# Altium footprint library footprints.PcbLib: 3 footprints
Each footprint in its own frame and in the unit in brackets; x right, y up, seen from the top. Pads: shape width x height; smd on the part's side, far side on the other; paste and mask are expansions set on the pad; w line width, h text height; cw(c..) or ccw(c..) is an arc to the next point about the centre after c.
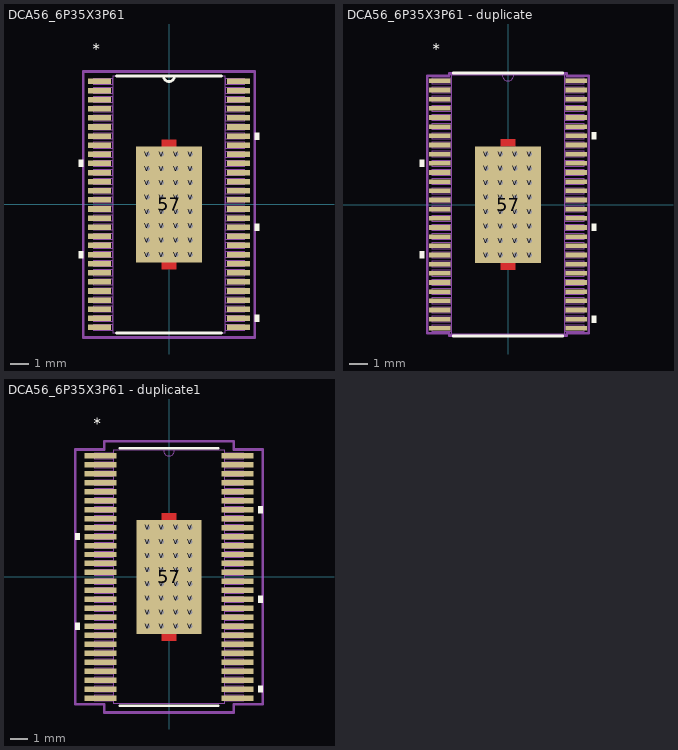
[diagram p0: the footprints below, top view; thin cyan lines are the x and y axes]

## DCA56_6P35X3P61 [mil]
pads (89):
  rect 50x12 smd: 1(-150.5,265.75) 2(-150.5,246.06) 3(-150.5,226.38) 4(-150.5,206.69) 5(-150.5,187.01) 6(-150.5,167.32) 7(-150.5,147.64) 8(-150.5,127.95) 9(-150.5,108.27) 10(-150.5,88.58) 11(-150.5,68.9) 12(-150.5,49.21) 13(-150.5,29.53) 14(-150.5,9.84) 15(-150.5,-9.84) 16(-150.5,-29.53) 17(-150.5,-49.21) 18(-150.5,-68.9) 19(-150.5,-88.58) 20(-150.5,-108.27) 21(-150.5,-127.95) 22(-150.5,-147.64) 23(-150.5,-167.32) 24(-150.5,-187.01) 25(-150.5,-206.69) 26(-150.5,-226.38) 27(-150.5,-246.06) 28(-150.5,-265.75) 29(150.5,-265.75) 30(150.5,-246.06) 31(150.5,-226.38) 32(150.5,-206.69) 33(150.5,-187.01) 34(150.5,-167.32) 35(150.5,-147.64) 36(150.5,-127.95) 37(150.5,-108.27) 38(150.5,-88.58) 39(150.5,-68.9) 40(150.5,-49.21) 41(150.5,-29.53) 42(150.5,-9.84) 43(150.5,9.84) 44(150.5,29.53) 45(150.5,49.21) 46(150.5,68.9) 47(150.5,88.58) 48(150.5,108.27) 49(150.5,127.95) 50(150.5,147.64) 51(150.5,167.32) 52(150.5,187.01) 53(150.5,206.69) 54(150.5,226.38) 55(150.5,246.06) 56(150.5,265.75)
  rect 142.13x250 smd: 57(0,0)
  round 20 hole 10: V(-46.5,-108.5) V(-46.5,-77.5) V(-46.5,-46.5) V(-46.5,-15.5) V(-46.5,15.5) V(-46.5,46.5) V(-46.5,77.5) V(-46.5,108.5) V(-15.5,-108.5) V(-15.5,-77.5) V(-15.5,-46.5) V(-15.5,-15.5) V(-15.5,15.5) V(-15.5,46.5) V(-15.5,77.5) V(-15.5,108.5) V(15.5,-108.5) V(15.5,-77.5) V(15.5,-46.5) V(15.5,-15.5) V(15.5,15.5) V(15.5,46.5) V(15.5,77.5) V(15.5,108.5) V(46.5,-108.5) V(46.5,-77.5) V(46.5,-46.5) V(46.5,-15.5) V(46.5,15.5) V(46.5,46.5) V(46.5,77.5) V(46.5,108.5)
F.Cu:
  region: 15.75,125 -15.75,125 -15.75,139.96 15.75,139.96
  region: 15.75,-139.96 -15.75,-139.96 -15.75,-125 15.75,-125
F.SilkS:
  region: -185.5,81.08 -195.5,81.08 -195.5,96.08 -185.5,96.08
  region: -185.5,-115.77 -195.5,-115.77 -195.5,-100.77 -185.5,-100.77
  region: 195.5,-253.56 185.5,-253.56 185.5,-238.56 195.5,-238.56
  region: 195.5,-56.71 185.5,-56.71 185.5,-41.71 195.5,-41.71
  region: 195.5,140.14 185.5,140.14 185.5,155.14 195.5,155.14
  lines w6: -113.73,-277.5 113.73,-277.5 ; -113.73,277.5 113.73,277.5 ; -12,277.5 ccw(c0,277.5) 12,277.5
  text "*" at -165.3,318.14 h39.37
  text "*" at -165.3,318.14 h39.37
F.Paste:
  drawing of 45 lines, arcs and shapes, not listed
F.Mask:
  region: 15.75,125 -15.75,125 -15.75,139.96 15.75,139.96
  region: 15.75,-139.96 -15.75,-139.96 -15.75,-125 15.75,-125
  region: 73.56,116.37 -73.56,116.37 -73.56,127.5 73.56,127.5
  region: 73.56,85.37 -73.56,85.37 -73.56,100.63 73.56,100.63
  region: 73.56,54.37 -73.56,54.37 -73.56,69.63 73.56,69.63
  region: 73.56,23.37 -73.56,23.37 -73.56,38.63 73.56,38.63
  region: 73.56,-7.63 -73.56,-7.63 -73.56,7.63 73.56,7.63
  region: 73.56,-38.63 -73.56,-38.63 -73.56,-23.37 73.56,-23.37
  region: 73.56,-69.63 -73.56,-69.63 -73.56,-54.37 73.56,-54.37
  region: 73.56,-100.63 -73.56,-100.63 -73.56,-85.37 73.56,-85.37
  region: 73.56,-127.5 -73.56,-127.5 -73.56,-116.37 73.56,-116.37
  region: -54.37,-127.5 -73.56,-127.5 -73.56,127.5 -54.37,127.5
  region: -23.37,-127.5 -38.63,-127.5 -38.63,127.5 -23.37,127.5
  region: 7.63,-127.5 -7.63,-127.5 -7.63,127.5 7.63,127.5
  region: 38.63,-127.5 23.37,-127.5 23.37,127.5 38.63,127.5
  region: 73.56,-127.5 54.37,-127.5 54.37,127.5 73.56,127.5
F.Fab:
  drawing of 229 lines, arcs and shapes, not listed
  text "'.Designator'" at -56.64,-15.69 h39.37
  text "*" at -165.3,318.14 h39.37
  text "*" at -165.3,318.14 h39.37
F.CrtYd:
  lines w6: -185.5,-287.5 -185.5,287.5 185.5,287.5 185.5,-287.5 -185.5,-287.5

## DCA56_6P35X3P61 - duplicate [mil]
pads (89):
  rect 46x10 smd: 1(-146.5,265.75) 2(-146.5,246.06) 3(-146.5,226.38) 4(-146.5,206.69) 5(-146.5,187.01) 6(-146.5,167.32) 7(-146.5,147.64) 8(-146.5,127.95) 9(-146.5,108.27) 10(-146.5,88.58) 11(-146.5,68.9) 12(-146.5,49.21) 13(-146.5,29.53) 14(-146.5,9.84) 15(-146.5,-9.84) 16(-146.5,-29.53) 17(-146.5,-49.21) 18(-146.5,-68.9) 19(-146.5,-88.58) 20(-146.5,-108.27) 21(-146.5,-127.95) 22(-146.5,-147.64) 23(-146.5,-167.32) 24(-146.5,-187.01) 25(-146.5,-206.69) 26(-146.5,-226.38) 27(-146.5,-246.06) 28(-146.5,-265.75) 29(146.5,-265.75) 30(146.5,-246.06) 31(146.5,-226.38) 32(146.5,-206.69) 33(146.5,-187.01) 34(146.5,-167.32) 35(146.5,-147.64) 36(146.5,-127.95) 37(146.5,-108.27) 38(146.5,-88.58) 39(146.5,-68.9) 40(146.5,-49.21) 41(146.5,-29.53) 42(146.5,-9.84) 43(146.5,9.84) 44(146.5,29.53) 45(146.5,49.21) 46(146.5,68.9) 47(146.5,88.58) 48(146.5,108.27) 49(146.5,127.95) 50(146.5,147.64) 51(146.5,167.32) 52(146.5,187.01) 53(146.5,206.69) 54(146.5,226.38) 55(146.5,246.06) 56(146.5,265.75)
  rect 142.13x250 smd: 57(0,0)
  round 20 hole 10: V(-46.5,-108.5) V(-46.5,-77.5) V(-46.5,-46.5) V(-46.5,-15.5) V(-46.5,15.5) V(-46.5,46.5) V(-46.5,77.5) V(-46.5,108.5) V(-15.5,-108.5) V(-15.5,-77.5) V(-15.5,-46.5) V(-15.5,-15.5) V(-15.5,15.5) V(-15.5,46.5) V(-15.5,77.5) V(-15.5,108.5) V(15.5,-108.5) V(15.5,-77.5) V(15.5,-46.5) V(15.5,-15.5) V(15.5,15.5) V(15.5,46.5) V(15.5,77.5) V(15.5,108.5) V(46.5,-108.5) V(46.5,-77.5) V(46.5,-46.5) V(46.5,-15.5) V(46.5,15.5) V(46.5,46.5) V(46.5,77.5) V(46.5,108.5)
F.Cu:
  region: 15.75,125 -15.75,125 -15.75,139.96 15.75,139.96
  region: 15.75,-139.96 -15.75,-139.96 -15.75,-125 15.75,-125
F.SilkS:
  region: -179.5,81.08 -189.5,81.08 -189.5,96.08 -179.5,96.08
  region: -179.5,-115.77 -189.5,-115.77 -189.5,-100.77 -179.5,-100.77
  region: 189.5,-253.56 179.5,-253.56 179.5,-238.56 189.5,-238.56
  region: 189.5,-56.71 179.5,-56.71 179.5,-41.71 189.5,-41.71
  region: 189.5,140.14 179.5,140.14 179.5,155.14 189.5,155.14
  lines w6: -117.71,-282.5 117.71,-282.5 ; -117.71,282.5 117.71,282.5
  text "*" at -161.3,316.14 h39.37
  text "*" at -161.3,316.14 h39.37
F.Paste:
  drawing of 45 lines, arcs and shapes, not listed
F.Mask:
  region: 15.75,125 -15.75,125 -15.75,139.96 15.75,139.96
  region: 15.75,-139.96 -15.75,-139.96 -15.75,-125 15.75,-125
  region: 73.56,116.37 -73.56,116.37 -73.56,127.5 73.56,127.5
  region: 73.56,85.37 -73.56,85.37 -73.56,100.63 73.56,100.63
  region: 73.56,54.37 -73.56,54.37 -73.56,69.63 73.56,69.63
  region: 73.56,23.37 -73.56,23.37 -73.56,38.63 73.56,38.63
  region: 73.56,-7.63 -73.56,-7.63 -73.56,7.63 73.56,7.63
  region: 73.56,-38.63 -73.56,-38.63 -73.56,-23.37 73.56,-23.37
  region: 73.56,-69.63 -73.56,-69.63 -73.56,-54.37 73.56,-54.37
  region: 73.56,-100.63 -73.56,-100.63 -73.56,-85.37 73.56,-85.37
  region: 73.56,-127.5 -73.56,-127.5 -73.56,-116.37 73.56,-116.37
  region: -54.37,-127.5 -73.56,-127.5 -73.56,127.5 -54.37,127.5
  region: -23.37,-127.5 -38.63,-127.5 -38.63,127.5 -23.37,127.5
  region: 7.63,-127.5 -7.63,-127.5 -7.63,127.5 7.63,127.5
  region: 38.63,-127.5 23.37,-127.5 23.37,127.5 38.63,127.5
  region: 73.56,-127.5 54.37,-127.5 54.37,127.5 73.56,127.5
F.Fab:
  drawing of 229 lines, arcs and shapes, not listed
  text "'.Designator'" at -56.64,-15.69 h39.37
  text "*" at -116.8,271.14 h39.37
  text "*" at -116.8,271.14 h39.37
F.CrtYd:
  lines w6: -173.5,-276.39 -173.5,276.39 -126,276.39 -126,281.5 126,281.5 126,276.39 173.5,276.39 173.5,-276.39 126,-276.39 126,-281.5 -126,-281.5 -126,-276.39 -173.5,-276.39

## DCA56_6P35X3P61 - duplicate1 [mil]
pads (89):
  rect 70x12 smd: 1(-150.5,265.75) 2(-150.5,246.06) 3(-150.5,226.38) 4(-150.5,206.69) 5(-150.5,187.01) 6(-150.5,167.32) 7(-150.5,147.64) 8(-150.5,127.95) 9(-150.5,108.27) 10(-150.5,88.58) 11(-150.5,68.9) 12(-150.5,49.21) 13(-150.5,29.53) 14(-150.5,9.84) 15(-150.5,-9.84) 16(-150.5,-29.53) 17(-150.5,-49.21) 18(-150.5,-68.9) 19(-150.5,-88.58) 20(-150.5,-108.27) 21(-150.5,-127.95) 22(-150.5,-147.64) 23(-150.5,-167.32) 24(-150.5,-187.01) 25(-150.5,-206.69) 26(-150.5,-226.38) 27(-150.5,-246.06) 28(-150.5,-265.75) 29(150.5,-265.75) 30(150.5,-246.06) 31(150.5,-226.38) 32(150.5,-206.69) 33(150.5,-187.01) 34(150.5,-167.32) 35(150.5,-147.64) 36(150.5,-127.95) 37(150.5,-108.27) 38(150.5,-88.58) 39(150.5,-68.9) 40(150.5,-49.21) 41(150.5,-29.53) 42(150.5,-9.84) 43(150.5,9.84) 44(150.5,29.53) 45(150.5,49.21) 46(150.5,68.9) 47(150.5,88.58) 48(150.5,108.27) 49(150.5,127.95) 50(150.5,147.64) 51(150.5,167.32) 52(150.5,187.01) 53(150.5,206.69) 54(150.5,226.38) 55(150.5,246.06) 56(150.5,265.75)
  rect 142.13x250 smd: 57(0,0)
  round 20 hole 10: V(-46.5,-108.5) V(-46.5,-77.5) V(-46.5,-46.5) V(-46.5,-15.5) V(-46.5,15.5) V(-46.5,46.5) V(-46.5,77.5) V(-46.5,108.5) V(-15.5,-108.5) V(-15.5,-77.5) V(-15.5,-46.5) V(-15.5,-15.5) V(-15.5,15.5) V(-15.5,46.5) V(-15.5,77.5) V(-15.5,108.5) V(15.5,-108.5) V(15.5,-77.5) V(15.5,-46.5) V(15.5,-15.5) V(15.5,15.5) V(15.5,46.5) V(15.5,77.5) V(15.5,108.5) V(46.5,-108.5) V(46.5,-77.5) V(46.5,-46.5) V(46.5,-15.5) V(46.5,15.5) V(46.5,46.5) V(46.5,77.5) V(46.5,108.5)
F.Cu:
  region: 15.75,125 -15.75,125 -15.75,139.96 15.75,139.96
  region: 15.75,-139.96 -15.75,-139.96 -15.75,-125 15.75,-125
F.SilkS:
  region: -195.5,81.08 -205.5,81.08 -205.5,96.08 -195.5,96.08
  region: -195.5,-115.77 -205.5,-115.77 -205.5,-100.77 -195.5,-100.77
  region: 205.5,-253.56 195.5,-253.56 195.5,-238.56 205.5,-238.56
  region: 205.5,-56.71 195.5,-56.71 195.5,-41.71 205.5,-41.71
  region: 205.5,140.14 195.5,140.14 195.5,155.14 205.5,155.14
  lines w6: -108.02,-282.5 108.02,-282.5 ; -108.02,282.5 108.02,282.5
  text "*" at -165.3,318.14 h39.37
  text "*" at -165.3,318.14 h39.37
F.Paste:
  drawing of 45 lines, arcs and shapes, not listed
F.Mask:
  region: 15.75,125 -15.75,125 -15.75,139.96 15.75,139.96
  region: 15.75,-139.96 -15.75,-139.96 -15.75,-125 15.75,-125
  region: 73.56,116.37 -73.56,116.37 -73.56,127.5 73.56,127.5
  region: 73.56,85.37 -73.56,85.37 -73.56,100.63 73.56,100.63
  region: 73.56,54.37 -73.56,54.37 -73.56,69.63 73.56,69.63
  region: 73.56,23.37 -73.56,23.37 -73.56,38.63 73.56,38.63
  region: 73.56,-7.63 -73.56,-7.63 -73.56,7.63 73.56,7.63
  region: 73.56,-38.63 -73.56,-38.63 -73.56,-23.37 73.56,-23.37
  region: 73.56,-69.63 -73.56,-69.63 -73.56,-54.37 73.56,-54.37
  region: 73.56,-100.63 -73.56,-100.63 -73.56,-85.37 73.56,-85.37
  region: 73.56,-127.5 -73.56,-127.5 -73.56,-116.37 73.56,-116.37
  region: -54.37,-127.5 -73.56,-127.5 -73.56,127.5 -54.37,127.5
  region: -23.37,-127.5 -38.63,-127.5 -38.63,127.5 -23.37,127.5
  region: 7.63,-127.5 -7.63,-127.5 -7.63,127.5 7.63,127.5
  region: 38.63,-127.5 23.37,-127.5 23.37,127.5 38.63,127.5
  region: 73.56,-127.5 54.37,-127.5 54.37,127.5 73.56,127.5
F.Fab:
  drawing of 229 lines, arcs and shapes, not listed
  text "'.Designator'" at -56.64,-15.69 h39.37
  text "*" at -116.8,273.14 h39.37
  text "*" at -116.8,273.14 h39.37
F.CrtYd:
  lines w6: -205.5,-279.59 -205.5,279.59 -142,279.59 -142,297.5 142,297.5 142,279.59 205.5,279.59 205.5,-279.59 142,-279.59 142,-297.5 -142,-297.5 -142,-279.59 -205.5,-279.59